# Altium schematic symbol library STGW30NC60KD.SchLib: 1 symbol
Pins are listed as number, name and electrical type; pins without a type are passive.

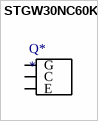
[diagram p0: symbol STGW30NC60KD]

## STGW30NC60KD
designator Q*
footprint STGW30NC60KD
pins: 1 G, 2 C, 3 E